# Altium footprint library SparkFun-Resistors.PCBLIB: 28 footprints (part 2 of 2)
Each footprint in its own frame and in the unit in brackets; x right, y up, seen from the top. Pads: shape width x height; smd on the part's side, far side on the other; paste and mask are expansions set on the pad; w line width, h text height; cw(c..) or ccw(c..) is an arc to the next point about the centre after c.
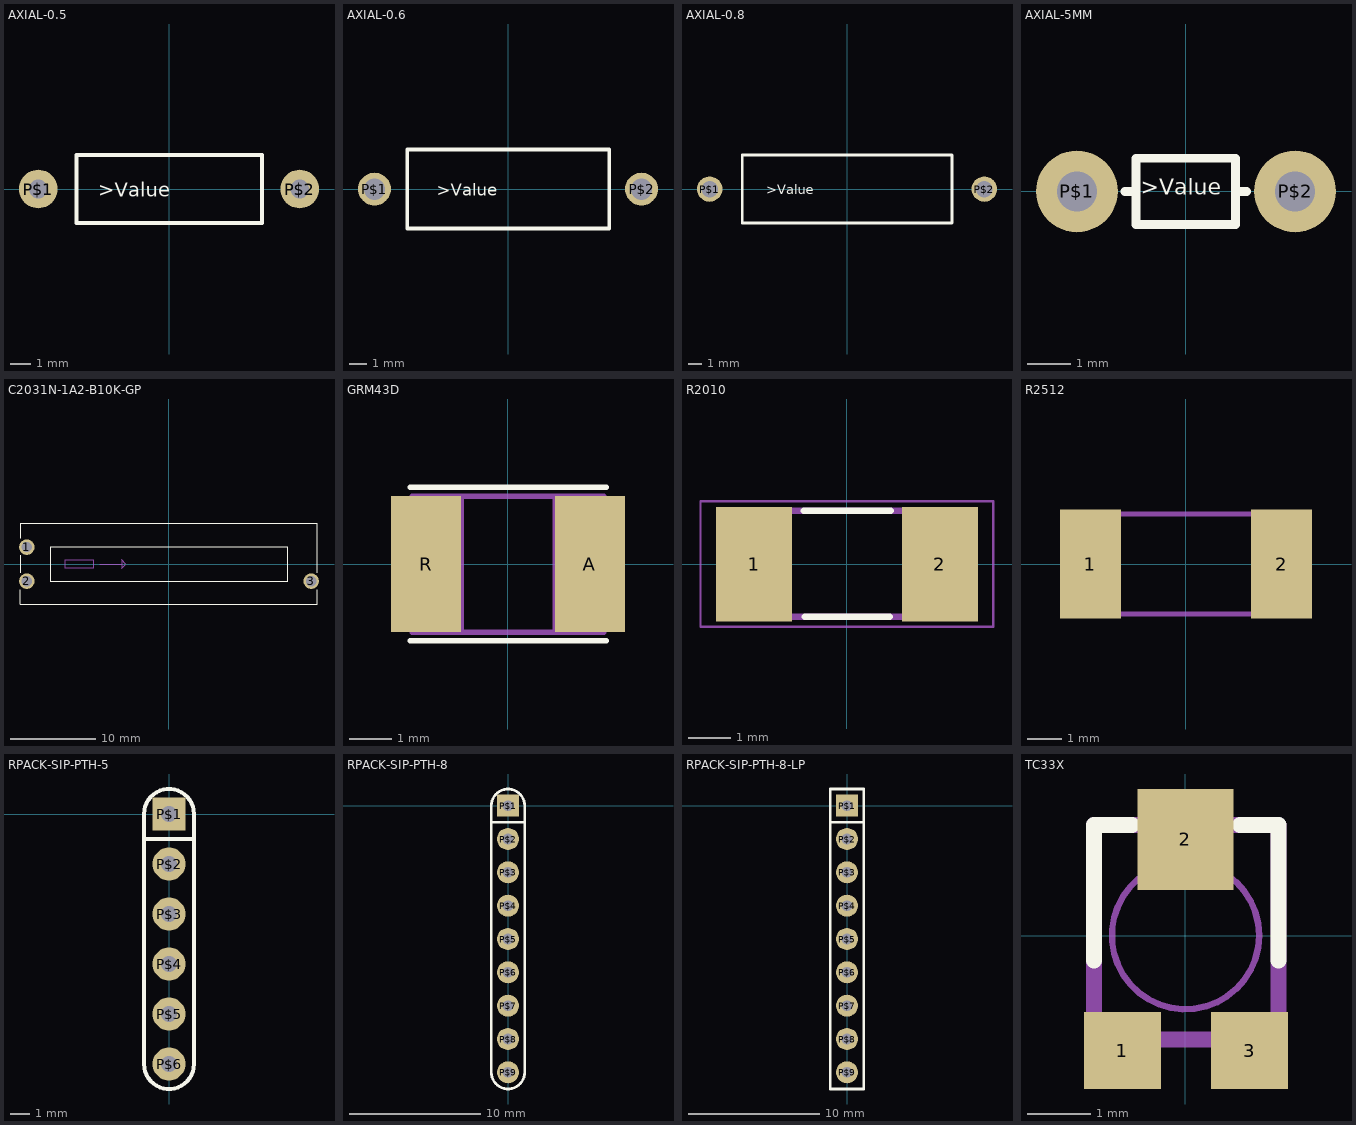
[diagram p1: the footprints below, top view; thin cyan lines are the x and y axes]

## AXIAL-0.5 [mil]
pads (2):
  round 74 hole 36: P$1(-250,0) P$2(250,0)
Top Overlay:
  lines w8: -177.17,-64.96 -177.17,65 178,65 178,-64.96 -177.17,-64.96
  text ">Value" at -135,-15 h27.2
Mechanical 2:
  text ">Name" at -175,100 h27.2

## AXIAL-0.6 [mil]
pads (2):
  round 74 hole 48: P$1(-300,0) P$2(300,0)
Top Overlay:
  lines w8: -226.38,-88.58 -226.38,89 227,89 227,-88.58 -226.38,-88.58
  text ">Value" at -160,-15 h27.2
Mechanical 2:
  text ">Name" at -225,125 h27.2

## AXIAL-0.8 [mil]
pads (2):
  round 74 hole 48: P$1(-400,0) P$2(400,0)
Top Overlay:
  lines w8: -305.12,-98.43 -305.12,99 306,99 306,-98.43 -305.12,-98.43
  text ">Value" at -235,-15 h27.2
Mechanical 2:
  text ">Name" at -300,125 h27.2

## AXIAL-5MM [mil]
pads (2):
  round 74 hole 36: P$1(-98.43,0) P$2(99,0)
Top Overlay:
  lines w8: -54.88,0 -44.88,0 ; 55,0 45,0 ; -44.88,0 -44.88,-30 45,-30 45,0 ; -44.88,0 -44.88,30 45,30 45,0
  text ">Value" at -40.63,-8.19 h24.8
Mechanical 2:
  text ">Name" at -100,47 h24.8

## C2031N-1A2-B10K-GP [mil]
pads (3):
  round 72 hole 48: 1(-659.45,79) 2(-659.45,-78.74) 3(660,-78.74)
Top Overlay:
  lines w5: -688.98,-118.11 -688.98,-187.01 689,-187.01 689,-118.11 ; -688.98,-39.37 -688.98,40 ; -688.98,119 -688.98,188 689,188 689,-39.37 ; -551.18,-78.74 -551.18,79 552,79 552,-78.74 -551.18,-78.74
Mechanical 2:
  text ">Name" at -688.98,197 h77.5
Mechanical 4:
  text ">Value" at -688.98,-196.85 h77.5
Mechanical 13:
  lines w5: -320,0 -220,0 ; -220,0 -220,-20 -200,0 -220,20 -220,0 ; -480,-20 -350,-20 -350,20 -480,20 -480,-20

## GRM43D [mil]
pads (2):
  rect 65x126 smd: A(76,0) R(-75.87,0)
Top Overlay:
  lines w5: -90.55,-70.87 91,-70.87 ; -90.55,71 91,71
Mechanical 2:
  text ">NAME" at -78.74,79 h24.8
Mechanical 4:
  text ">VALUE" at 0,-78.74 h24.8
Mechanical 16:
  rectangle: -86.61,-62.99 -43.31,63
  rectangle: 44,-62.99 87,63
  lines w5: -43.31,-62.99 -88.58,-62.99 -88.58,63 -43.31,63 ; -43.31,-62.99 44,-62.99 ; -43.31,-62.99 -43.31,63 ; -43.31,63 44,63 ; 44,-62.99 89,-62.99 89,63 44,63 ; 44,-62.99 44,63

## R2010 [mil]
pads (2):
  rect 71x107 smd: 1(-86.61,0) 2(87,0)
Top Overlay:
  lines w6: -40.43,50 41,50 ; -39.45,-49.02 40,-49.02
Mechanical 2:
  text ">NAME" at -100,63 h24.8
Mechanical 4:
  text ">VALUE" at -100,-80 h24.8
Mechanical 16:
  rectangle: -98,-52 -64.54,53
  rectangle: 65,-52 99,53
  lines w6: -65.43,50 66,50 ; -64.45,-49.02 67,-49.02
Mechanical 27:
  lines w2: -136.73,-58.39 137,-58.39 137,59 -136.73,59 -136.73,-58.39

## R2512 [mil]
pads (2):
  rect 71x126 smd: 1(-110.24,0) 2(111,0)
Mechanical 2:
  text ">NAME" at -100,75 h77.5
Mechanical 4:
  text ">VALUE" at -100,-125 h77.5
Mechanical 16:
  rectangle: -126,-61 -92.54,62
  rectangle: 93,-61 127,62
  lines w6: -92.99,-57.99 94,-57.99 ; -92.99,58 94,58

## RPACK-SIP-PTH-5 [mil]
pads (6):
  rect 66x66 hole 32: P$1(0,0)
  round 66 hole 32: P$2(0,-100) P$3(0,-200) P$4(0,-300) P$5(0,-400) P$6(0,-500)
Top Overlay:
  lines w8: -50,-50 -50,0 cw(c0,0) 50,0 50,-50 ; -50,-50 -50,-500 ccw(c0,-500) 50,-500 50,-50 ; -50,-50 50,-50
Mechanical 2:
  text ">NAME" at -70,-500 h77.5
Mechanical 4:
  text ">VALUE" at -120,0 h77.5

## RPACK-SIP-PTH-8 [mil]
pads (9):
  rect 66x66 hole 32: P$1(0,0)
  round 66 hole 32: P$2(0,-100) P$3(0,-200) P$4(0,-300) P$5(0,-400) P$6(0,-500) P$7(0,-600) P$8(0,-700) P$9(0,-800)
Top Overlay:
  lines w8: -50,-50 -50,0 cw(c0,0) 50,0 50,-50 ; -50,-50 -50,-800 ccw(c0,-800) 50,-800 50,-50 ; -50,-50 50,-50
Mechanical 2:
  text ">NAME" at -70,-800 h77.5
Mechanical 4:
  text ">VALUE" at -120,0 h77.5

## RPACK-SIP-PTH-8-LP [mil]
pads (9):
  rect 66x66 hole 32: P$1(0,0)
  round 66 hole 32: P$2(0,-100) P$3(0,-200) P$4(0,-300) P$5(0,-400) P$6(0,-500) P$7(0,-600) P$8(0,-700) P$9(0,-800)
Top Overlay:
  lines w8: -50,-50 -50,-850 50,-850 50,-50 ; -50,-50 50,-50 ; -50,-50 -50,50 50,50 50,-50
Mechanical 2:
  text ">NAME" at -70,-800 h77.5
Mechanical 4:
  text ">VALUE" at -120,0 h77.5

## TC33X [mil]
pads (3):
  rect 48x48 smd: 1(-39.37,-71.85) 3(40,-71.85)
  rect 60x63 smd: 2(0,60)
Top Overlay:
  lines w10: -57.09,-15.75 -57.09,69 -33.46,69 ; 34,69 58,69 58,-15.75
Mechanical 2:
  text ">NAME" at -75,-75 h27.2
Mechanical 4:
  text ">VALUE" at 100,-75 h27.2
Mechanical 16:
  circle w4: c0,0 r46
  lines w10: -57.09,-64.96 -57.09,69 58,69 58,-64.96 -57.09,-64.96